# EAGLE library part BBONEBLACK (library microcontroller-shields)
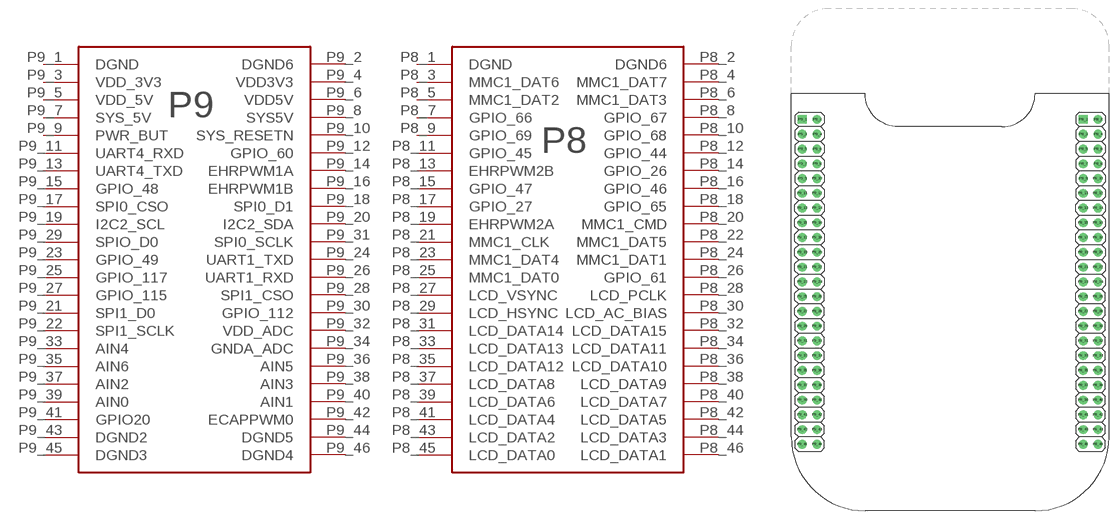
[diagram p0: symbol with the pads of BBONE; footprint BBONE]

Designator prefix -; gates G$1=BBONEP8 G$2=BBONEP9

## BBONEBLACK  [BBONE]
P8_1  G$1:DGND
P8_2  G$1:DGND6
P8_3  G$1:MMC1_DAT6
P8_4  G$1:MMC1_DAT7
P8_5  G$1:MMC1_DAT2
P8_6  G$1:MMC1_DAT3
P8_7  G$1:GPIO_66
P8_8  G$1:GPIO_67
P8_9  G$1:GPIO_69
P8_10  G$1:GPIO_68
P8_11  G$1:GPIO_45
P8_12  G$1:GPIO_44
P8_13  G$1:EHRPWM2B
P8_14  G$1:GPIO_26
P8_15  G$1:GPIO_47
P8_16  G$1:GPIO_46
P8_17  G$1:GPIO_27
P8_18  G$1:GPIO_65
P8_19  G$1:EHRPWM2A
P8_20  G$1:MMC1_CMD
P8_21  G$1:MMC1_CLK
P8_22  G$1:MMC1_DAT5
P8_23  G$1:MMC1_DAT4
P8_24  G$1:MMC1_DAT1
P8_25  G$1:MMC1_DAT0
P8_26  G$1:GPIO_61
P8_27  G$1:LCD_VSYNC
P8_28  G$1:LCD_PCLK
P8_29  G$1:LCD_HSYNC
P8_30  G$1:LCD_AC_BIAS
P8_31  G$1:LCD_DATA14
P8_32  G$1:LCD_DATA15
P8_33  G$1:LCD_DATA13
P8_34  G$1:LCD_DATA11
P8_35  G$1:LCD_DATA12
P8_36  G$1:LCD_DATA10
P8_37  G$1:LCD_DATA8
P8_38  G$1:LCD_DATA9
P8_39  G$1:LCD_DATA6
P8_40  G$1:LCD_DATA7
P8_41  G$1:LCD_DATA4
P8_42  G$1:LCD_DATA5
P8_43  G$1:LCD_DATA2
P8_44  G$1:LCD_DATA3
P8_45  G$1:LCD_DATA0
P8_46  G$1:LCD_DATA1
P9_1  G$2:DGND
P9_2  G$2:DGND6
P9_3  G$2:VDD_3V3
P9_4  G$2:VDD3V3
P9_5  G$2:VDD_5V
P9_6  G$2:VDD5V
P9_7  G$2:SYS_5V
P9_8  G$2:SYS5V
P9_9  G$2:PWR_BUT
P9_10  G$2:SYS_RESETN
P9_11  G$2:UART4_RXD
P9_12  G$2:GPIO_60
P9_13  G$2:UART4_TXD
P9_14  G$2:EHRPWM1A
P9_15  G$2:GPIO_48
P9_16  G$2:EHRPWM1B
P9_17  G$2:SPI0_CSO
P9_18  G$2:SPI0_D1
P9_19  G$2:I2C2_SCL
P9_20  G$2:I2C2_SDA
P9_21  G$2:SPI1_D0
P9_22  G$2:SPI1_SCLK
P9_23  G$2:GPIO_49
P9_24  G$2:UART1_TXD
P9_25  G$2:GPIO_117
P9_26  G$2:UART1_RXD
P9_27  G$2:GPIO_115
P9_28  G$2:SPI1_CSO
P9_29  G$2:SPIO_D0
P9_30  G$2:GPIO_112
P9_31  G$2:SPI0_SCLK
P9_32  G$2:VDD_ADC
P9_33  G$2:AIN4
P9_34  G$2:GNDA_ADC
P9_35  G$2:AIN6
P9_36  G$2:AIN5
P9_37  G$2:AIN2
P9_38  G$2:AIN3
P9_39  G$2:AIN0
P9_40  G$2:AIN1
P9_41  G$2:GPIO20
P9_42  G$2:ECAPPWM0
P9_43  G$2:DGND2
P9_44  G$2:DGND5
P9_45  G$2:DGND3
P9_46  G$2:DGND4

## Footprint BBONE (pad centres in mm)
drill 1 square: P8_1 23.495,27.94; P9_1 -24.765,27.94
drill 1: P8_2 26.035,27.94; P8_3 23.495,25.4; P8_4 26.035,25.4; P8_5 23.495,22.86; P8_6 26.035,22.86; P8_7 23.495,20.32; P8_8 26.035,20.32; P8_9 23.495,17.78; P8_10 26.035,17.78; P8_11 23.495,15.24; P8_12 26.035,15.24; P8_13 23.495,12.7; P8_14 26.035,12.7; P8_15 23.495,10.16; P8_16 26.035,10.16; P8_17 23.495,7.62; P8_18 26.035,7.62; P8_19 23.495,5.08; P8_20 26.035,5.08; P8_21 23.495,2.54; P8_22 26.035,2.54; P8_23 23.495,0; P8_24 26.035,0; P8_25 23.495,-2.54; P8_26 26.035,-2.54; P8_27 23.495,-5.08; P8_28 26.035,-5.08; P8_29 23.495,-7.62; P8_30 26.035,-7.62; P8_31 23.495,-10.16; P8_32 26.035,-10.16; P8_33 23.495,-12.7; P8_34 26.035,-12.7; P8_35 23.495,-15.24; P8_36 26.035,-15.24; P8_37 23.495,-17.78; P8_38 26.035,-17.78; P8_39 23.495,-20.32; P8_40 26.035,-20.32; P8_41 23.495,-22.86; P8_42 26.035,-22.86; P8_43 23.495,-25.4; P8_44 26.035,-25.4; P8_45 23.495,-27.94; P8_46 26.035,-27.94; P9_2 -22.225,27.94; P9_3 -24.765,25.4; P9_4 -22.225,25.4; P9_5 -24.765,22.86; P9_6 -22.225,22.86; P9_7 -24.765,20.32; P9_8 -22.225,20.32; P9_9 -24.765,17.78; P9_10 -22.225,17.78; P9_11 -24.765,15.24; P9_12 -22.225,15.24; P9_13 -24.765,12.7; P9_14 -22.225,12.7; P9_15 -24.765,10.16; P9_16 -22.225,10.16; P9_17 -24.765,7.62; P9_18 -22.225,7.62; P9_19 -24.765,5.08; P9_20 -22.225,5.08; P9_21 -24.765,2.54; P9_22 -22.225,2.54; P9_23 -24.765,0; P9_24 -22.225,0; P9_25 -24.765,-2.54; P9_26 -22.225,-2.54; P9_27 -24.765,-5.08; P9_28 -22.225,-5.08; P9_29 -24.765,-7.62; P9_30 -22.225,-7.62; P9_31 -24.765,-10.16; P9_32 -22.225,-10.16; P9_33 -24.765,-12.7; P9_34 -22.225,-12.7; P9_35 -24.765,-15.24; P9_36 -22.225,-15.24; P9_37 -24.765,-17.78; P9_38 -22.225,-17.78; P9_39 -24.765,-20.32; P9_40 -22.225,-20.32; P9_41 -24.765,-22.86; P9_42 -22.225,-22.86; P9_43 -24.765,-25.4; P9_44 -22.225,-25.4; P9_45 -24.765,-27.94; P9_46 -22.225,-27.94